# Altium schematic symbol library SN74AHC08PW.SchLib: 1 symbol
Pins are listed as number, name and electrical type; pins without a type are passive.

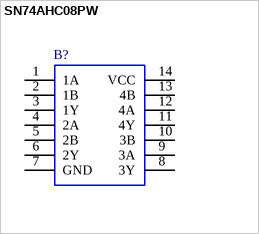
[diagram p0: symbol SN74AHC08PW]

## SN74AHC08PW
designator B?
Quadruple 2-Input Positive-AND Gates; Manufacturer_Name: Texas Instruments; Geometry.Height: 1.2mm; Manufacturer_Part_Number: SN74AHC08PW; Mouser Part Number: 595-SN74AHC08PW; Mouser Price/Stock: https://www.mouser.co.uk/ProductDetail/Texas-Instruments/SN74AHC08PW?qs=3pnr37ZAbK%252BIPRPPiAPWMg%3D%3D; Arrow Part Number: SN74AHC08PW; Arrow Price/Stock: https://www.arrow.com/en/products/sn74ahc08pw/texas-instruments; Mouser Testing Part Number: *; Mouser Testing Price/Stock: *; Datasheet Link: http://www.ti.com/lit/gpn/SN74AHC08
footprint SOP65P640X120-14N
pins: 1 1A, 2 1B, 3 1Y, 4 2A, 5 2B, 6 2Y, 7 GND, 8 3Y, 9 3A, 10 3B, 11 4Y, 12 4A, 13 4B, 14 VCC